# EAGLE library part DS3231M (library charlespax)
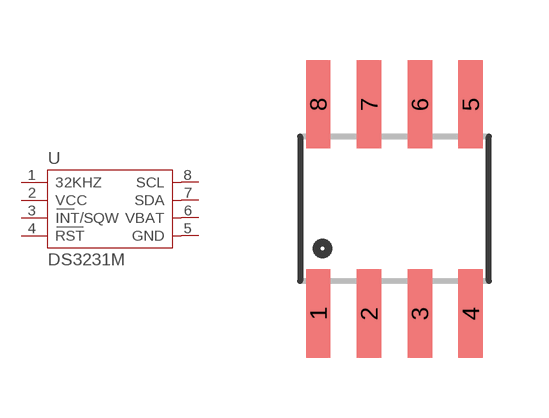
[diagram p2: symbol with the pads of SOIC8; footprint SOIC8]

Designator prefix -

## DS3231M  [SOIC8]
1  32KHZ  out
2  VCC  sup
3  INT/SQW  out
4  RST
5  GND  sup
6  VBAT  in
7  SDA
8  SCL  in

## Footprint SOIC8 (pad centres in mm)
smd 0.61 x 2.21: 1 -1.905,-2.616; 2 -0.635,-2.616; 3 0.635,-2.616; 4 1.905,-2.616; 5 1.905,2.616; 6 0.635,2.616; 7 -0.635,2.616; 8 -1.905,2.616